# EAGLE library part ADXL375 (library ADXL375)
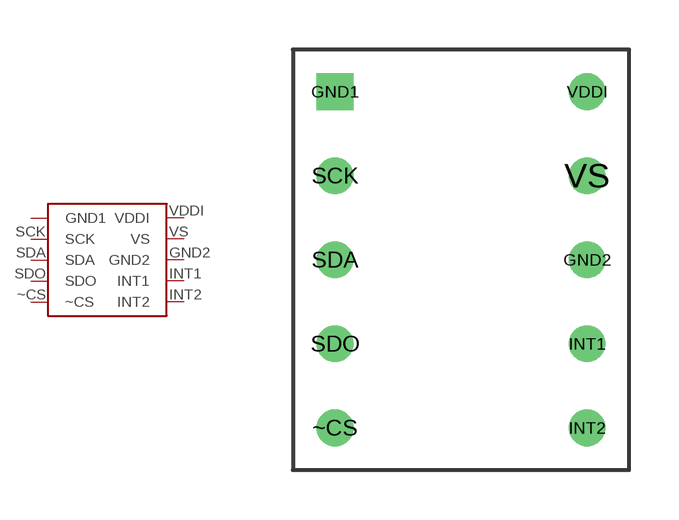
[diagram p0: symbol with the pads of ADXL375; footprint ADXL375]

Designator prefix -

## ADXL375  [ADXL375]
GND1  GND1
GND2  GND2
INT1  INT1
INT2  INT2
SCK  SCK
SDA  SDA
SDO  SDO
VDDI  VDDI
VS  VS
~CS  ~CS

## Footprint ADXL375 (pad centres in mm)
drill 0.6 square: GND1 1.27,-1.27
drill 0.6: GND2 8.89,-6.35; INT1 8.89,-8.89; INT2 8.89,-11.43; SCK 1.27,-3.81; SDA 1.27,-6.35; SDO 1.27,-8.89; VDDI 8.89,-1.27; VS 8.89,-3.81; ~CS 1.27,-11.43